# EAGLE library part MTA06-100 (library AMP_MTA)
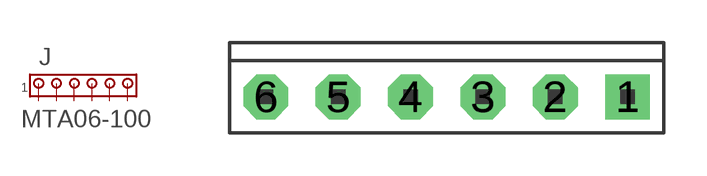
[diagram p0: symbol with the pads of 1X06MTA; footprint 1X06MTA]

Designator prefix J

## MTA06-100  [1X06MTA]
1  6
2  5
3  4
4  3
5  2
6  1

## Footprint 1X06MTA (pad centres in mm)
drill 1.016 pad 1.575 square: 1 7.62,0
drill 1.016 pad 1.575 octagon: 2 5.08,0; 3 2.54,0; 4 0,0; 5 -2.54,0; 6 -5.08,0